# EAGLE library part TA1011B (library my_ic)
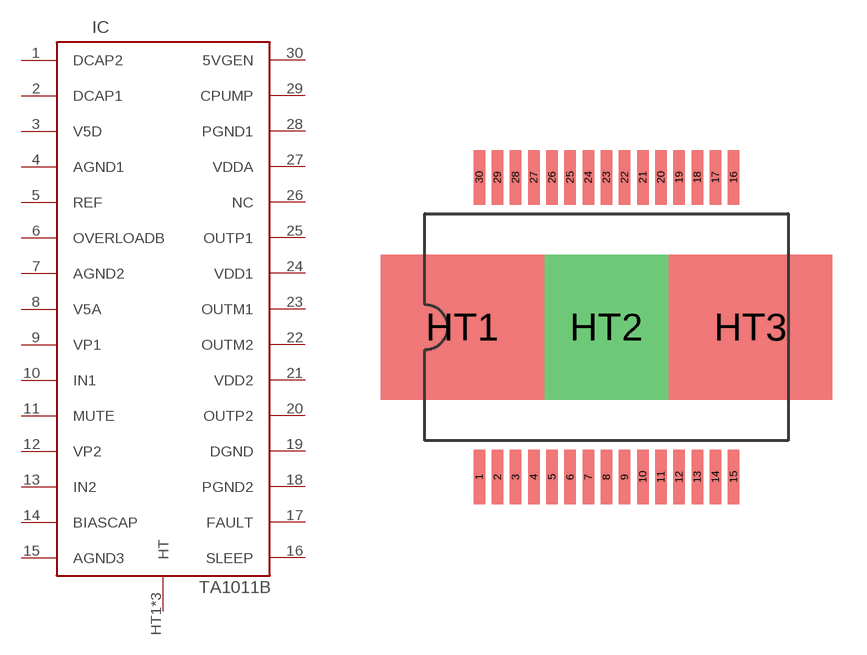
[diagram p5: symbol with the pads of PSOP30; footprint PSOP30]

Designator prefix IC

## TA1011B  [PSOP30]
1  DCAP2  out
2  DCAP1  pwr
3  V5D  pwr
4  AGND1  pwr
5  REF  out
6  OVERLOADB  out
7  AGND2  pwr
8  V5A  pwr
9  VP1  out
10  IN1  in
11  MUTE  in
12  VP2  out
13  IN2  in
14  BIASCAP  pwr
15  AGND3  pwr
16  SLEEP  in
17  FAULT  out
18  PGND2  pwr
19  DGND  pwr
20  OUTP2  out
21  VDD2  pwr
22  OUTM2  out
23  OUTM1  out
24  VDD1  pwr
25  OUTP1  out
26  NC  pas
27  VDDA  pwr
28  PGND1  pwr
29  CPUMP  pwr
30  5VGEN  out
HT1  HT  pwr
HT2  HT  pwr
HT3  HT  pwr

## Footprint PSOP30 (pad centres in mm)
smd 0.5 x 2.4: 1 -5.6,-6.6; 2 -4.8,-6.6; 3 -4,-6.6; 4 -3.2,-6.6; 5 -2.4,-6.6; 6 -1.6,-6.6; 7 -0.8,-6.6; 8 0,-6.6; 9 0.8,-6.6; 10 1.6,-6.6; 11 2.4,-6.6; 12 3.2,-6.6; 13 4,-6.6; 14 4.8,-6.6; 15 5.6,-6.6; 16 5.6,6.6; 17 4.8,6.6; 18 4,6.6; 19 3.2,6.6; 20 2.4,6.6; 21 1.6,6.6; 22 0.8,6.6; 23 0,6.6; 24 -0.8,6.6; 25 -1.6,6.6; 26 -2.4,6.6; 27 -3.2,6.6; 28 -4,6.6; 29 -4.8,6.6; 30 -5.6,6.6
smd 7.2 x 6.4: HT1 -6.35,0; HT3 6.35,0
drill 3 pad 6.4 square: HT2 0,0